# EAGLE library part TB6612 (library tb6612)
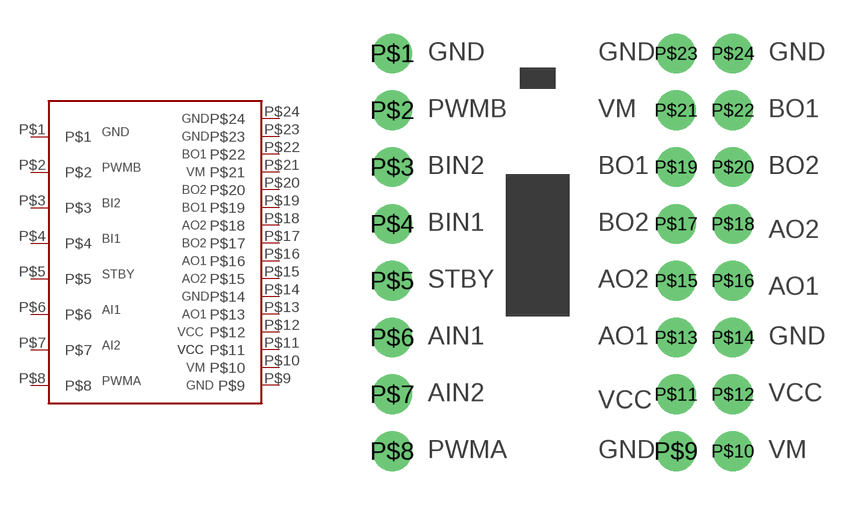
[diagram p0: symbol with the pads of TB6612_BOARD; footprint TB6612_BOARD]

Designator prefix -

## TB6612  [TB6612_BOARD]
P$1  P$1
P$2  P$2
P$3  P$3
P$4  P$4
P$5  P$5
P$6  P$6
P$7  P$7
P$8  P$8
P$9  P$9
P$10  P$10
P$11  P$11
P$12  P$12
P$13  P$13
P$14  P$14
P$15  P$15
P$16  P$16
P$17  P$17
P$18  P$18
P$19  P$19
P$20  P$20
P$21  P$21
P$22  P$22
P$23  P$23
P$24  P$24

## Footprint TB6612_BOARD (pad centres in mm)
drill 1.016 pad 1.778: P$1 1.27,19.05; P$2 1.27,16.51; P$3 1.27,13.97; P$4 1.27,11.43; P$5 1.27,8.89; P$6 1.27,6.35; P$7 1.27,3.81; P$8 1.27,1.27; P$9 13.97,1.27; P$10 16.51,1.27; P$11 13.97,3.81; P$12 16.51,3.81; P$13 13.97,6.35; P$14 16.51,6.35; P$15 13.97,8.89; P$16 16.51,8.89; P$17 13.97,11.43; P$18 16.51,11.43; P$19 13.97,13.97; P$20 16.51,13.97; P$21 13.97,16.51; P$22 16.51,16.51; P$23 13.97,19.05; P$24 16.51,19.05